# EAGLE library part KONASHI1.0 (library konashiv2-fixed)
konashiは、スマホ・タブレット端末と連携するフィジカルコンピューティングのためのツールキットです。
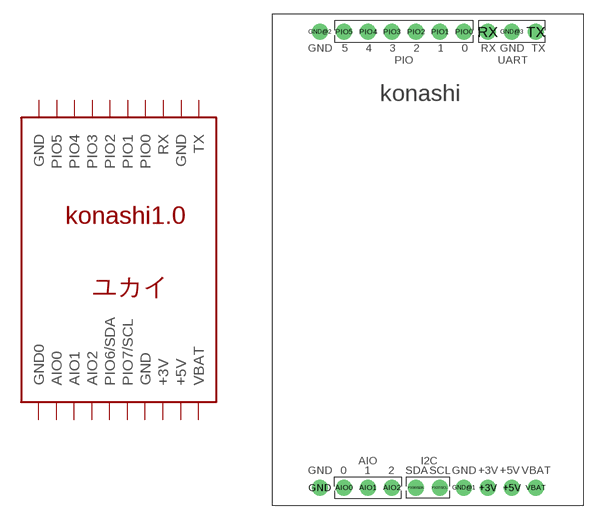
[diagram p0: symbol with the pads of KONASHI; footprint KONASHI]

Designator prefix -

## KONASHI1.0  [KONASHI]
+3V  +3V  pwr
+5V  +5V  pwr
AIO0  AIO0
AIO1  AIO1
AIO2  AIO2
GND  GND0  pwr
GND@1  GND  pwr
GND@2  GND  pwr
GND@3  GND  pwr
PIO0  PIO0
PIO1  PIO1
PIO2  PIO2
PIO3  PIO3
PIO4  PIO4
PIO5  PIO5
PIO6/SDA  PIO6/SDA
PIO7/SCL  PIO7/SCL
RX  RX
TX  TX
VBAT  VBAT  pwr

## Footprint KONASHI (pad centres in mm)
konashiは、スマホ・タブレット端末と連携するフィジカルコンピューティングのためのツールキットです。
drill 1 pad 1.676: +3V 22.85,1.864; +5V 25.39,1.864; AIO0 7.61,1.864; AIO1 10.15,1.864; AIO2 12.69,1.864; GND 5.07,1.864; GND@1 20.31,1.864; GND@2 5.07,50.124; GND@3 25.39,50.124; PIO0 20.31,50.124; PIO1 17.77,50.124; PIO2 15.23,50.124; PIO3 12.69,50.124; PIO4 10.15,50.124; PIO5 7.61,50.124; PIO6/SDA 15.23,1.864; PIO7/SCL 17.77,1.864; RX 22.85,50.124; TX 27.93,50.124; VBAT 27.93,1.864